# EAGLE library part FLAT-FLEX-CONNECTOR-VERT-18POS (library FlashPCB_Connectors)
FLAT-FLEX-CONNECTOR-VERT-18POS - Flat Flex Connector 18 position Vertical Technical Specifications: Number of Positions: 18 Contact: One Side Mount: Vertical
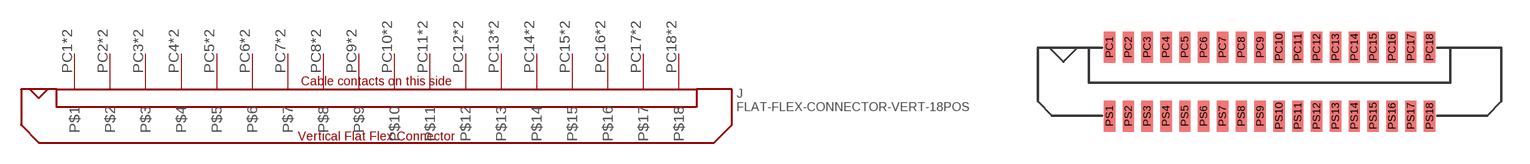
[diagram p129: symbol with the pads of FLAT-FLEX-CONNECTOR-MOLEX-52610-VERT-18POS; footprint FLAT-FLEX-CONNECTOR-MOLEX-52610-VERT-18POS]

Designator prefix J

## FLAT-FLEX-CONNECTOR-VERT-18POS1MM-PITCH  [FLAT-FLEX-CONNECTOR-MOLEX-52610-VERT-18POS]
PC1  P$1
PC2  P$2
PC3  P$3
PC4  P$4
PC5  P$5
PC6  P$6
PC7  P$7
PC8  P$8
PC9  P$9
PC10  P$10
PC11  P$11
PC12  P$12
PC13  P$13
PC14  P$14
PC15  P$15
PC16  P$16
PC17  P$17
PC18  P$18
PS1  P$1
PS2  P$2
PS3  P$3
PS4  P$4
PS5  P$5
PS6  P$6
PS7  P$7
PS8  P$8
PS9  P$9
PS10  P$10
PS11  P$11
PS12  P$12
PS13  P$13
PS14  P$14
PS15  P$15
PS16  P$16
PS17  P$17
PS18  P$18

## Footprint FLAT-FLEX-CONNECTOR-MOLEX-52610-VERT-18POS (pad centres in mm)
smd 0.6 x 1.65: PC1 -8.5,1.825; PC2 -7.5,1.825; PC3 -6.5,1.825; PC4 -5.5,1.825; PC5 -4.5,1.825; PC6 -3.5,1.825; PC7 -2.5,1.825; PC8 -1.5,1.825; PC9 -0.5,1.825; PC10 0.5,1.825; PC11 1.5,1.825; PC12 2.5,1.825; PC13 3.5,1.825; PC14 4.5,1.825; PC15 5.5,1.825; PC16 6.5,1.825; PC17 7.5,1.825; PC18 8.5,1.825; PS1 -8.5,-1.825; PS2 -7.5,-1.825; PS3 -6.5,-1.825; PS4 -5.5,-1.825; PS5 -4.5,-1.825; PS6 -3.5,-1.825; PS7 -2.5,-1.825; PS8 -1.5,-1.825; PS9 -0.5,-1.825; PS10 0.5,-1.825; PS11 1.5,-1.825; PS12 2.5,-1.825; PS13 3.5,-1.825; PS14 4.5,-1.825; PS15 5.5,-1.825; PS16 6.5,-1.825; PS17 7.5,-1.825; PS18 8.5,-1.825